# EAGLE library part M32C/83(144PIN) (library renesas_mcu)
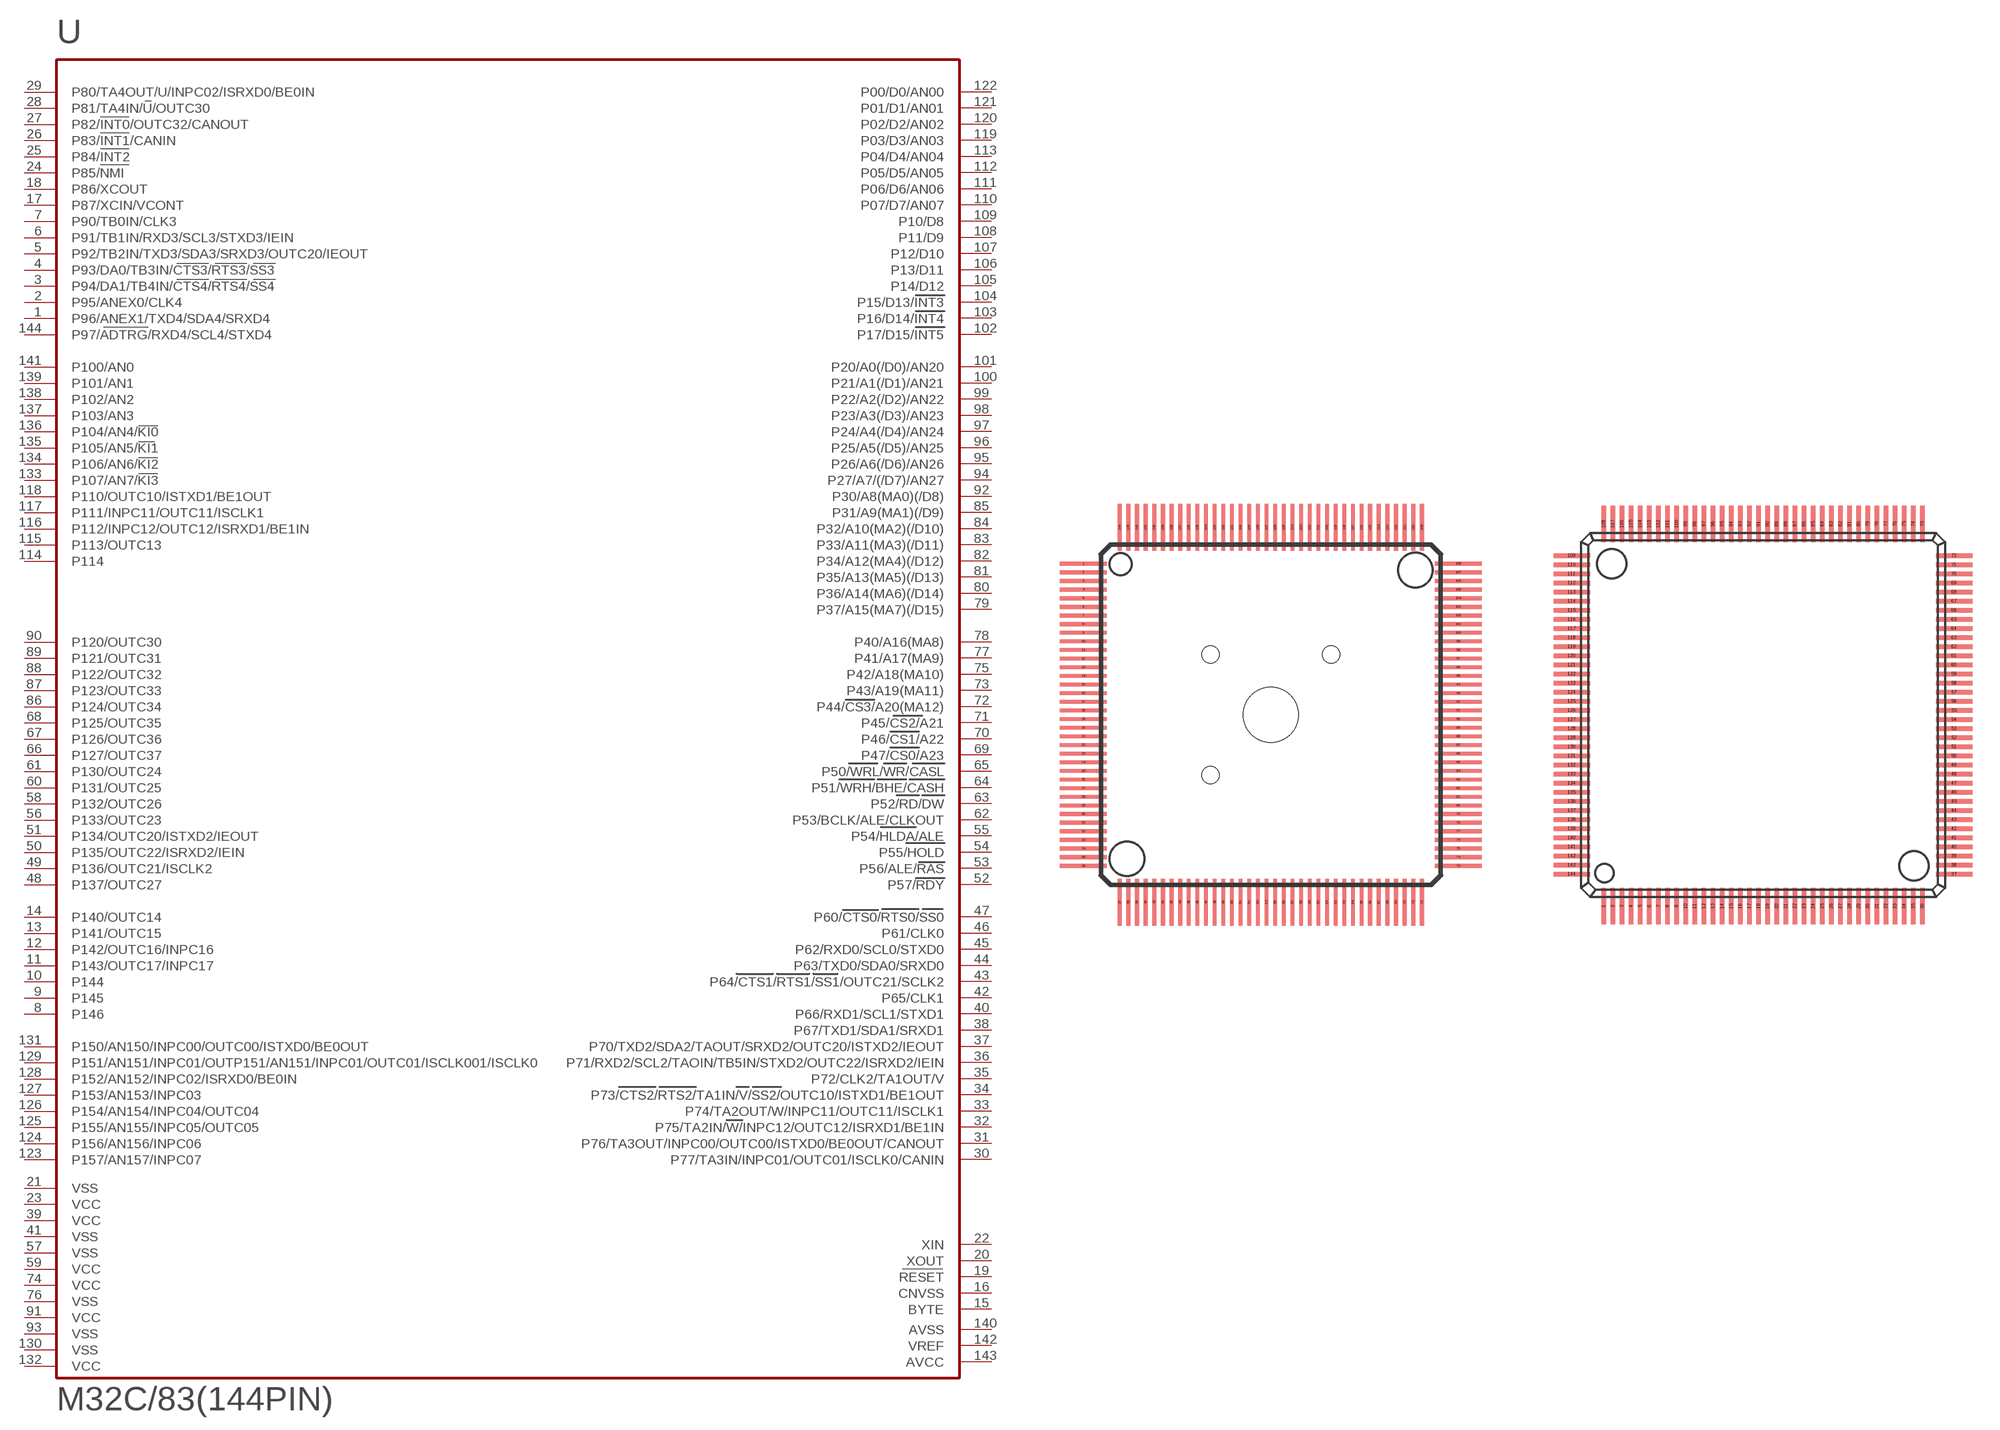
[diagram p14: symbol with the pads of 144P6Q-A(SOCKET); footprints 144P6Q-A(SOCKET), 144P6Q-A]

Designator prefix -

## M32C/83(144PIN)2  [144P6Q-A(SOCKET)]
1  P96/ANEX1/TXD4/SDA4/SRXD4
2  P95/ANEX0/CLK4
3  P94/DA1/TB4IN/CTS4/RTS4/SS4
4  P93/DA0/TB3IN/CTS3/RTS3/SS3
5  P92/TB2IN/TXD3/SDA3/SRXD3/OUTC20/IEOUT
6  P91/TB1IN/RXD3/SCL3/STXD3/IEIN
7  P90/TB0IN/CLK3
8  P146
9  P145
10  P144
11  P143/OUTC17/INPC17
12  P142/OUTC16/INPC16
13  P141/OUTC15
14  P140/OUTC14
15  BYTE  in
16  CNVSS  in
17  P87/XCIN/VCONT
18  P86/XCOUT
19  RESET  in
20  XOUT
21  VSS  pwr
22  XIN  in
23  VCC  pwr
24  P85/NMI  in
25  P84/INT2
26  P83/INT1/CANIN
27  P82/INT0/OUTC32/CANOUT
28  P81/TA4IN/U/OUTC30
29  P80/TA4OUT/U/INPC02/ISRXD0/BE0IN
30  P77/TA3IN/INPC01/OUTC01/ISCLK0/CANIN
31  P76/TA3OUT/INPC00/OUTC00/ISTXD0/BE0OUT/CANOUT
32  P75/TA2IN/W/INPC12/OUTC12/ISRXD1/BE1IN
33  P74/TA2OUT/W/INPC11/OUTC11/ISCLK1
34  P73/CTS2/RTS2/TA1IN/V/SS2/OUTC10/ISTXD1/BE1OUT
35  P72/CLK2/TA1OUT/V
36  P71/RXD2/SCL2/TAOIN/TB5IN/STXD2/OUTC22/ISRXD2/IEIN
37  P70/TXD2/SDA2/TAOUT/SRXD2/OUTC20/ISTXD2/IEOUT
38  P67/TXD1/SDA1/SRXD1
39  VCC  pwr
40  P66/RXD1/SCL1/STXD1
41  VSS  pwr
42  P65/CLK1
43  P64/CTS1/RTS1/SS1/OUTC21/SCLK2
44  P63/TXD0/SDA0/SRXD0
45  P62/RXD0/SCL0/STXD0
46  P61/CLK0
47  P60/CTS0/RTS0/SS0
48  P137/OUTC27
49  P136/OUTC21/ISCLK2
50  P135/OUTC22/ISRXD2/IEIN
51  P134/OUTC20/ISTXD2/IEOUT
52  P57/RDY
53  P56/ALE/RAS
54  P55/HOLD
55  P54/HLDA/ALE
56  P133/OUTC23
57  VSS  pwr
58  P132/OUTC26
59  VCC  pwr
60  P131/OUTC25
61  P130/OUTC24
62  P53/BCLK/ALE/CLKOUT
63  P52/RD/DW
64  P51/WRH/BHE/CASH
65  P50/WRL/WR/CASL
66  P127/OUTC37
67  P126/OUTC36
68  P125/OUTC35
69  P47/CS0/A23
70  P46/CS1/A22
71  P45/CS2/A21
72  P44/CS3/A20(MA12)
73  P43/A19(MA11)
74  VCC  pwr
75  P42/A18(MA10)
76  VSS  pwr
77  P41/A17(MA9)
78  P40/A16(MA8)
79  P37/A15(MA7)(/D15)
80  P36/A14(MA6)(/D14)
81  P35/A13(MA5)(/D13)
82  P34/A12(MA4)(/D12)
83  P33/A11(MA3)(/D11)
84  P32/A10(MA2)(/D10)
85  P31/A9(MA1)(/D9)
86  P124/OUTC34
87  P123/OUTC33
88  P122/OUTC32
89  P121/OUTC31
90  P120/OUTC30
91  VCC  pwr
92  P30/A8(MA0)(/D8)
93  VSS  pwr
94  P27/A7/(/D7)/AN27
95  P26/A6(/D6)/AN26
96  P25/A5(/D5)/AN25
97  P24/A4(/D4)/AN24
98  P23/A3(/D3)/AN23
99  P22/A2(/D2)/AN22
100  P21/A1(/D1)/AN21
101  P20/A0(/D0)/AN20
102  P17/D15/INT5
103  P16/D14/INT4
104  P15/D13/INT3
105  P14/D12
106  P13/D11
107  P12/D10
108  P11/D9
109  P10/D8
110  P07/D7/AN07
111  P06/D6/AN06
112  P05/D5/AN05
113  P04/D4/AN04
114  P114
115  P113/OUTC13
116  P112/INPC12/OUTC12/ISRXD1/BE1IN
117  P111/INPC11/OUTC11/ISCLK1
118  P110/OUTC10/ISTXD1/BE1OUT
119  P03/D3/AN03
120  P02/D2/AN02
121  P01/D1/AN01
122  P00/D0/AN00
123  P157/AN157/INPC07
124  P156/AN156/INPC06
125  P155/AN155/INPC05/OUTC05
126  P154/AN154/INPC04/OUTC04
127  P153/AN153/INPC03
128  P152/AN152/INPC02/ISRXD0/BE0IN
129  P151/AN151/INPC01/OUTP151/AN151/INPC01/OUTC01/ISCLK001/ISCLK0
130  VSS  pwr
131  P150/AN150/INPC00/OUTC00/ISTXD0/BE0OUT
132  VCC  pwr
133  P107/AN7/KI3
134  P106/AN6/KI2
135  P105/AN5/KI1
136  P104/AN4/KI0
137  P103/AN3
138  P102/AN2
139  P101/AN1
140  AVSS  in
141  P100/AN0
142  VREF  in
143  AVCC  in
144  P97/ADTRG/RXD4/SCL4/STXD4

## M32C/83(144PIN)1  [144P6Q-A]
Pads as for 144P6Q-A(SOCKET)

## Footprint 144P6Q-A(SOCKET) (pad centres in mm)
smd 2.7 x 0.225: 1 -10.85,8.75; 2 -10.85,8.25; 3 -10.85,7.75; 4 -10.85,7.25; 5 -10.85,6.75; 6 -10.85,6.25; 7 -10.85,5.75; 8 -10.85,5.25; 9 -10.85,4.75; 10 -10.85,4.25; 11 -10.85,3.75; 12 -10.85,3.25; 13 -10.85,2.75; 14 -10.85,2.25; 15 -10.85,1.75; 16 -10.85,1.25; 17 -10.85,0.75; 18 -10.85,0.25; 19 -10.85,-0.25; 20 -10.85,-0.75; 21 -10.85,-1.25; 22 -10.85,-1.75; 23 -10.85,-2.25; 24 -10.85,-2.75; 25 -10.85,-3.25; 26 -10.85,-3.75; 27 -10.85,-4.25; 28 -10.85,-4.75; 29 -10.85,-5.25; 30 -10.85,-5.75; 31 -10.85,-6.25; 32 -10.85,-6.75; 33 -10.85,-7.25; 34 -10.85,-7.75; 35 -10.85,-8.25; 36 -10.85,-8.75; 73 10.85,-8.75; 74 10.85,-8.25; 75 10.85,-7.75; 76 10.85,-7.25; 77 10.85,-6.75; 78 10.85,-6.25; 79 10.85,-5.75; 80 10.85,-5.25; 81 10.85,-4.75; 82 10.85,-4.25; 83 10.85,-3.75; 84 10.85,-3.25; 85 10.85,-2.75; 86 10.85,-2.25; 87 10.85,-1.75; 88 10.85,-1.25; 89 10.85,-0.75; 90 10.85,-0.25; 91 10.85,0.25; 92 10.85,0.75; 93 10.85,1.25; 94 10.85,1.75; 95 10.85,2.25; 96 10.85,2.75; 97 10.85,3.25; 98 10.85,3.75; 99 10.85,4.25; 100 10.85,4.75; 101 10.85,5.25; 102 10.85,5.75; 103 10.85,6.25; 104 10.85,6.75; 105 10.85,7.25; 106 10.85,7.75; 107 10.85,8.25; 108 10.85,8.75
smd 0.225 x 2.7: 37 -8.75,-10.85; 38 -8.25,-10.85; 39 -7.75,-10.85; 40 -7.25,-10.85; 41 -6.75,-10.85; 42 -6.25,-10.85; 43 -5.75,-10.85; 44 -5.25,-10.85; 45 -4.75,-10.85; 46 -4.25,-10.85; 47 -3.75,-10.85; 48 -3.25,-10.85; 49 -2.75,-10.85; 50 -2.25,-10.85; 51 -1.75,-10.85; 52 -1.25,-10.85; 53 -0.75,-10.85; 54 -0.25,-10.85; 55 0.25,-10.85; 56 0.75,-10.85; 57 1.25,-10.85; 58 1.75,-10.85; 59 2.25,-10.85; 60 2.75,-10.85; 61 3.25,-10.85; 62 3.75,-10.85; 63 4.25,-10.85; 64 4.75,-10.85; 65 5.25,-10.85; 66 5.75,-10.85; 67 6.25,-10.85; 68 6.75,-10.85; 69 7.25,-10.85; 70 7.75,-10.85; 71 8.25,-10.85; 72 8.75,-10.85; 109 8.75,10.85; 110 8.25,10.85; 111 7.75,10.85; 112 7.25,10.85; 113 6.75,10.85; 114 6.25,10.85; 115 5.75,10.85; 116 5.25,10.85; 117 4.75,10.85; 118 4.25,10.85; 119 3.75,10.85; 120 3.25,10.85; 121 2.75,10.85; 122 2.25,10.85; 123 1.75,10.85; 124 1.25,10.85; 125 0.75,10.85; 126 0.25,10.85; 127 -0.25,10.85; 128 -0.75,10.85; 129 -1.25,10.85; 130 -1.75,10.85; 131 -2.25,10.85; 132 -2.75,10.85; 133 -3.25,10.85; 134 -3.75,10.85; 135 -4.25,10.85; 136 -4.75,10.85; 137 -5.25,10.85; 138 -5.75,10.85; 139 -6.25,10.85; 140 -6.75,10.85; 141 -7.25,10.85; 142 -7.75,10.85; 143 -8.25,10.85; 144 -8.75,10.85
hole 3.2 at 0,0
hole 1 at -3.5,3.5
hole 1 at 3.5,3.5
hole 1 at -3.5,-3.5

## Footprint 144P6Q-A (pad centres in mm)
smd 0.25 x 2: 1 -8.75,-10.5; 2 -8.25,-10.5; 3 -7.75,-10.5; 4 -7.25,-10.5; 5 -6.75,-10.5; 6 -6.25,-10.5; 7 -5.75,-10.5; 8 -5.25,-10.5; 9 -4.75,-10.5; 10 -4.25,-10.5; 11 -3.75,-10.5; 12 -3.25,-10.5; 13 -2.75,-10.5; 14 -2.25,-10.5; 15 -1.75,-10.5; 16 -1.25,-10.5; 17 -0.75,-10.5; 18 -0.25,-10.5; 19 0.25,-10.5; 20 0.75,-10.5; 21 1.25,-10.5; 22 1.75,-10.5; 23 2.25,-10.5; 24 2.75,-10.5; 25 3.25,-10.5; 26 3.75,-10.5; 27 4.25,-10.5; 28 4.75,-10.5; 29 5.25,-10.5; 30 5.75,-10.5; 31 6.25,-10.5; 32 6.75,-10.5; 33 7.25,-10.5; 34 7.75,-10.5; 35 8.25,-10.5; 36 8.75,-10.5; 73 8.75,10.5; 74 8.25,10.5; 75 7.75,10.5; 76 7.25,10.5; 77 6.75,10.5; 78 6.25,10.5; 79 5.75,10.5; 80 5.25,10.5; 81 4.75,10.5; 82 4.25,10.5; 83 3.75,10.5; 84 3.25,10.5; 85 2.75,10.5; 86 2.25,10.5; 87 1.75,10.5; 88 1.25,10.5; 89 0.75,10.5; 90 0.25,10.5; 91 -0.25,10.5; 92 -0.75,10.5; 93 -1.25,10.5; 94 -1.75,10.5; 95 -2.25,10.5; 96 -2.75,10.5; 97 -3.25,10.5; 98 -3.75,10.5; 99 -4.25,10.5; 100 -4.75,10.5; 101 -5.25,10.5; 102 -5.75,10.5; 103 -6.25,10.5; 104 -6.75,10.5; 105 -7.25,10.5; 106 -7.75,10.5; 107 -8.25,10.5; 108 -8.75,10.5
smd 2 x 0.25: 37 10.5,-8.75; 38 10.5,-8.25; 39 10.5,-7.75; 40 10.5,-7.25; 41 10.5,-6.75; 42 10.5,-6.25; 43 10.5,-5.75; 44 10.5,-5.25; 45 10.5,-4.75; 46 10.5,-4.25; 47 10.5,-3.75; 48 10.5,-3.25; 49 10.5,-2.75; 50 10.5,-2.25; 51 10.5,-1.75; 52 10.5,-1.25; 53 10.5,-0.75; 54 10.5,-0.25; 55 10.5,0.25; 56 10.5,0.75; 57 10.5,1.25; 58 10.5,1.75; 59 10.5,2.25; 60 10.5,2.75; 61 10.5,3.25; 62 10.5,3.75; 63 10.5,4.25; 64 10.5,4.75; 65 10.5,5.25; 66 10.5,5.75; 67 10.5,6.25; 68 10.5,6.75; 69 10.5,7.25; 70 10.5,7.75; 71 10.5,8.25; 72 10.5,8.75; 109 -10.5,8.75; 110 -10.5,8.25; 111 -10.5,7.75; 112 -10.5,7.25; 113 -10.5,6.75; 114 -10.5,6.25; 115 -10.5,5.75; 116 -10.5,5.25; 117 -10.5,4.75; 118 -10.5,4.25; 119 -10.5,3.75; 120 -10.5,3.25; 121 -10.5,2.75; 122 -10.5,2.25; 123 -10.5,1.75; 124 -10.5,1.25; 125 -10.5,0.75; 126 -10.5,0.25; 127 -10.5,-0.25; 128 -10.5,-0.75; 129 -10.5,-1.25; 130 -10.5,-1.75; 131 -10.5,-2.25; 132 -10.5,-2.75; 133 -10.5,-3.25; 134 -10.5,-3.75; 135 -10.5,-4.25; 136 -10.5,-4.75; 137 -10.5,-5.25; 138 -10.5,-5.75; 139 -10.5,-6.25; 140 -10.5,-6.75; 141 -10.5,-7.25; 142 -10.5,-7.75; 143 -10.5,-8.25; 144 -10.5,-8.75